# Altium footprint library PcbLib1.PcbLib: 21 footprints (part 1 of 2)
Each footprint in its own frame and in the unit in brackets; x right, y up, seen from the top. Pads: shape width x height; smd on the part's side, far side on the other; paste and mask are expansions set on the pad; w line width, h text height; cw(c..) or ccw(c..) is an arc to the next point about the centre after c.
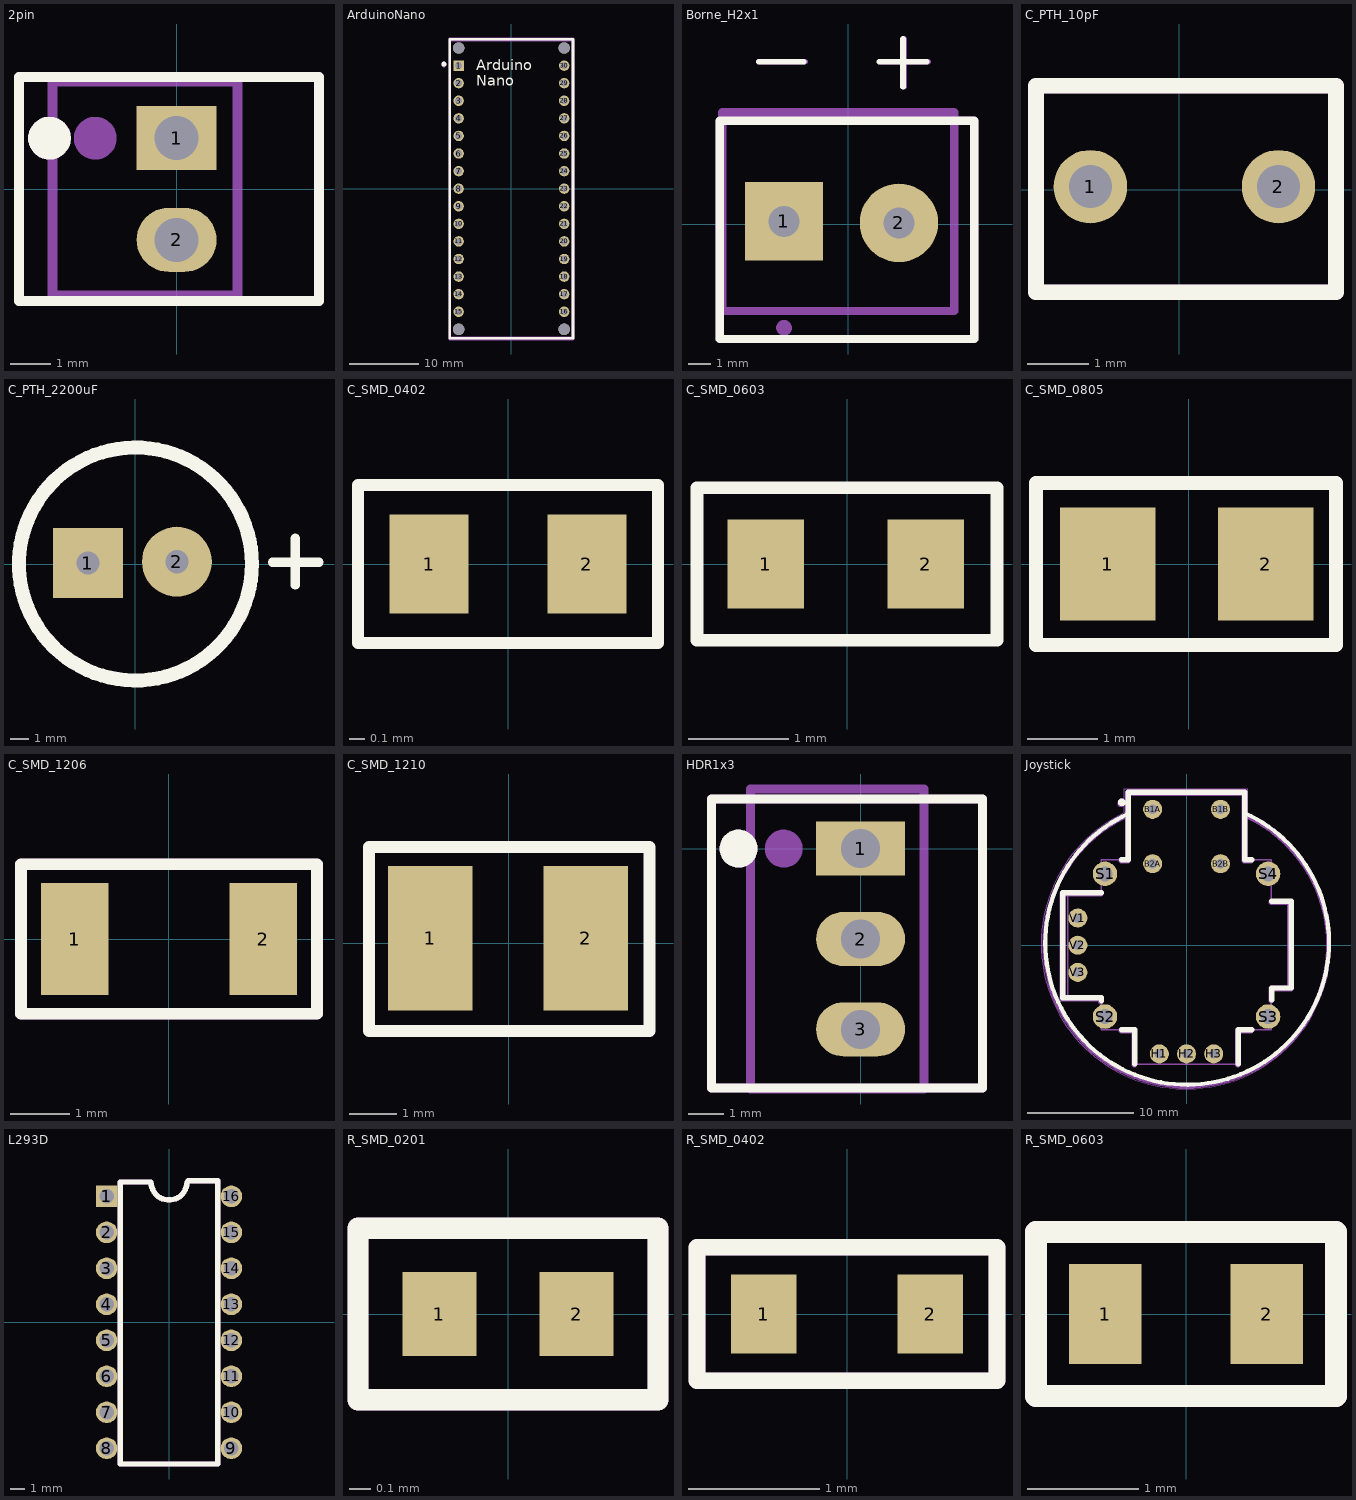
[diagram p0: the footprints below, top view; thin cyan lines are the x and y axes]

## 2pin [mm]
pads (2):
  rect 2x1.6 hole 1.1: 1(0,1.27)
  oval 2x1.6 hole 1.1: 2(0,-1.27)
Top Overlay:
  circle w0.559: c-3.175,1.27 r0.254
  lines w0.254: -3.937,-2.794 3.556,-2.794 3.556,2.794 -3.937,2.794 -3.937,-2.794
Mechanical 29:
  circle w0.559: c-3.175,1.27 r0.254
  lines w0.254: -3.937,-2.794 3.556,-2.794 3.556,2.794 -3.937,2.794 -3.937,-2.794
  text "'.Designator'" at -3.175,-1.524 h0.7
Mechanical 29 (Mech29):
  circle w0.559: c-2.032,1.27 r0.254
  lines w0.254: -3.099,-2.667 1.524,-2.667 1.524,2.692 -3.099,2.692 -3.099,-2.667
  text "'.Designator'" at -2.032,-0.762 h0.7
3D body "640456-2.step": height 10.03, standoff -3.56, extent -2.603,-2.54 3.238,2.54

## ArduinoNano [mm]
pads (34):
  rect 1.508x1.508 hole 1: 1(-7.62,17.78)
  round 1.508 hole 1: 2(-7.62,15.24) 3(-7.62,12.7) 4(-7.62,10.16) 5(-7.62,7.62) 6(-7.62,5.08) 7(-7.62,2.54) 8(-7.62,0) 9(-7.62,-2.54) 10(-7.62,-5.08) 11(-7.62,-7.62) 12(-7.62,-10.16) 13(-7.62,-12.7) 14(-7.62,-15.24) 15(-7.62,-17.78) 16(7.62,-17.78) 17(7.62,-15.24) 18(7.62,-12.7) 19(7.62,-10.16) 20(7.62,-7.62) 21(7.62,-5.08) 22(7.62,-2.54) 23(7.62,0) 24(7.62,2.54) 25(7.62,5.08) 26(7.62,7.62) 27(7.62,10.16) 28(7.62,12.7) 29(7.62,15.24) 30(7.62,17.78)
  round 1.651 hole 1.651 unplated: ""(-7.62,-20.32) ""(-7.62,20.32) ""(7.62,-20.32) ""(7.62,20.32)
Top Overlay:
  circle w0.508: c-9.75,18 r0.1
  lines w0.381: -8.89,-21.59 -8.89,21.59 8.89,21.59 8.89,-21.59 -8.89,-21.59
  text "Arduino / Nano" at -5.08,14.859 h1.52
Mechanical 29:
  circle w0.508: c-9.75,17.873 r0.1
  lines w0.381: -8.89,-21.717 -8.89,21.463 8.89,21.463 8.89,-21.717 -8.89,-21.717
  text "'.Designator'" at -1.524,-6.223 h0.7
Mechanical 29 (Mech29):
  circle w0.508: c-9.779,18.034 r0.1
  lines w0.381: -8.919,-21.556 8.861,-21.556 8.861,21.624 -8.919,21.624 -8.919,-21.556
  text "'.Designator'" at -3.329,-19.445 h0.8
3D body "step_temp.STEP": height 12.6, standoff -6, extent -9,-23.4 9,21.6

## Borne_H2x1 [mil]
pads (2):
  rect 140x140 hole 55.12: 1(-115,5)
  round 140 hole 55.12: 2(90.28,2.32)
Top Overlay:
  lines w10: -160,290 -80,290 ; 55,290 140,290 ; 97.51,245.7 97.51,330.7
  lines w15: -230,-205 225,-205 225,185 -230,185 -230,-205
Mechanical 29:
  lines w10: -157.5,290 -77.5,290 ; 57.5,290 142.5,290 ; 100.01,245.7 100.01,330.7
  lines w15: -230,-205 225,-205 225,185 -230,185 -230,-205
  text "'.Designator'" at -201.98,118.73 h27.56
Mechanical 29 (Mech29):
  circle w20: c-115,-185 r3.94
  lines w15: -225,-155 188.7,-155 188.7,200 -225,200 -225,-155
  text "'.Designator'" at -165,-125.01 h60
3D body "1935161.step": height 449.32, standoff -137.29, extent -208.43,-190.28 201.02,164.06

## C_PTH_10pF [mm]
pads (2):
  round 1.2 hole 0.7: 1(-1.448,0.051) 2(1.626,0.051)
Top Overlay:
  lines w0.254: -2.337,-1.676 2.565,-1.676 2.565,1.702 -2.337,1.702 -2.337,-1.676
Mechanical 29:
  lines w0.254: -2.337,-1.676 2.565,-1.676 2.565,1.702 -2.337,1.702 -2.337,-1.676
  text "'.Designator'" at -2.184,-0.584 h0.7
3D body "CPTH10pF.step": height 6.53, standoff -1.68, extent -1.867,-1.27 2.12,1.32

## C_PTH_2200uF [mil]
pads (2):
  rect 150x150 hole 50: 1(-102,2)
  round 150 hole 50: 2(89,5)
Top Overlay:
  circle w30: c0,0 r250
  lines w20: 294,4 394,4 ; 343,-45 343,55
3D body "CPTH2200uF.step": height 1377.95, standoff -669.29, extent -251.13,-242.9 240,248.9

## C_SMD_0402 [mil]
pads (2):
  rect 20x25 smd: 1(-20,0) 2(20,0)
Top Overlay:
  lines w3: -38,-20 38,-20 38,20 -38,20 -38,-20
3D body "C0402.step": height 19.84, standoff 0.16, extent -19.68,-10.65 19.68,11

## C_SMD_0603 [mil]
pads (2):
  rect 30x35 smd: 1(-32,0) 2(31,0)
Top Overlay:
  lines w5: -59,-30 59,-30 59,30 -59,30 -59,-30
3D body "RSMD0603.step": height 21.65, standoff 0, extent -31.78,-16.17 31.21,15.33

## C_SMD_0805 [mm]
pads (2):
  rect 1.35x1.6 smd: 1(-1.143,0) 2(1.092,0)
Top Overlay:
  lines w0.2: -2.159,-1.143 2.083,-1.143 2.083,1.143 -2.159,1.143 -2.159,-1.143
3D body "C0805.step": height 0.95, standoff 0, extent -1,-0.625 1,0.625

## C_SMD_1206 [mm]
pads (2):
  rect 1.15x1.9 smd: 1(-1.6,0) 2(1.6,0)
Top Overlay:
  lines w0.2: -2.515,-1.27 -2.515,1.27 2.515,1.27 2.515,-1.27 -2.515,-1.27
Mechanical 29:
  lines w0.2: -2.515,-1.27 -2.515,1.27 2.515,1.27 2.515,-1.27 -2.515,-1.27
  text "'.Designator'" at -2.078,-0.617 h0.7
3D body "C1206.step": height 0.88, standoff 0, extent -1.584,-0.788 1.616,0.812

## C_SMD_1210 [mil]
pads (2):
  rect 70x120 smd: 1(-65,4) 2(64,4)
Top Overlay:
  lines w10: -116,-73 117,-73 117,80 -116,80 -116,-73
3D body "C1210.step": height 99.21, standoff 0.79, extent -62.99,-52 62.99,58.24

## HDR1x3 [mm]
pads (3):
  rect 2.5x1.524 hole 1.1: 1(0,0)
  oval 2.5x1.524 hole 1.1: 2(0,-2.54) 3(0,-5.08)
Top Overlay:
  circle w0.559: c-3.429,0 r0.254
  lines w0.254: -4.191,-6.731 -4.191,1.397 3.429,1.397 3.429,-6.731 -4.191,-6.731
Mechanical 29:
  circle w0.559: c-3.429,0 r0.254
  lines w0.254: -4.191,-6.731 -4.191,1.397 3.429,1.397 3.429,-6.731 -4.191,-6.731
  text "'.Designator'" at -3.429,-4.445 h0.7
Mechanical 29 (Mech29):
  circle w0.559: c-2.159,0 r0.254
  lines w0.254: -3.099,-6.756 -3.099,1.676 1.778,1.676 1.778,-6.756 -3.099,-6.756
  text "'.Designator'" at -2.282,-2.873 h0.8
3D body "640456-3.stp": height 10.03, standoff -3.56, extent -2.667,-6.477 3.175,1.143

## Joystick [mil]
pads (14):
  round 70 hole 35.43: B1A(-125,500) B1B(125,500) B2A(-125,300) B2B(125,300)
  round 70 hole 35: H1(-100,-400) H2(0,-400) H3(100,-400) V1(-400,100) V2(-400,0) V3(-400,-100)
  round 90 hole 55: S1(-300,262.5) S2(-300,-262.5) S3(300,-262.5) S4(300,262.5)
Top Overlay:
  circle w20: c-238.19,525.59 r3.94
  lines w15: -214.57,483.61 ccw(c2.24,8.72) 214.57,485.62
  lines w20: -312.99,-203.54 -312.99,-192.91 -455,-192.91 -455,192.91 -312.99,192.91 ; -238.98,-311.02 -190.94,-311.02 -190.94,-437.01 ; -238.98,314.96 -214.57,314.96 -214.57,562.99 214.57,562.99 214.57,314.96 239.37,314.96 ; 190.94,-437.01 190.94,-311.02 239.37,-311.02 ; 312.99,-201.57 312.99,-157.48 385,-157.48 385,161.42 312.99,161.42
Mechanical 29:
  circle w20: c-240.43,521.87 r3.94
  lines w15: -216.8,479.88 ccw(c0,5) 212.33,481.9
  lines w20: -315.23,-207.27 -315.23,-196.64 -457.24,-196.64 -457.24,189.19 -315.23,189.19 ; -241.21,-314.75 -193.18,-314.75 -193.18,-440.73 ; -241.21,311.24 -216.8,311.24 -216.8,559.27 212.33,559.27 212.33,311.24 237.13,311.24 ; 188.71,-440.73 188.71,-314.75 237.13,-314.75 ; 310.76,-205.3 310.76,-161.2 382.76,-161.2 382.76,157.69 310.76,157.69
  text "'.Designator'" at -291.98,-81.27 h27.56
Mechanical 15:
  lines w1.97: -228.35,486.22 -228.35,574.8 224.41,574.8 224.41,486.22 ; -227.17,486.77 ccw(c-1.97,3.83) 223.23,486.77
Mechanical 29 (Mech29):
  circle w20: c-238.94,525 r3.94
  circle w7.87: c-238.94,525 r3.94
  lines w5: -437.76,-193.5 -313.74,-193.5 -313.74,-311.61 -191.69,-311.61 -191.69,-437.6 190.2,-437.6 190.2,-311.61 312.24,-311.61 312.24,-158.07 373.27,-158.07 373.27,160.83 312.24,160.83 312.24,314.37 213.82,314.37 213.82,562.4 -215.31,562.4 -215.31,314.37 -313.74,314.37 -313.74,192.32 -437.76,192.32 -437.76,-193.5
  lines w15: -213.08,478.76 ccw(c-0.75,1.86) 211.58,478.76
  lines w20: -313.74,-204.13 -313.74,-193.5 -455,-193.5 -455,192.32 -313.74,192.32 ; -239.72,-311.61 -191.69,-311.61 -191.69,-437.6 ; -239.72,314.37 -215.31,314.37 -215.31,562.4 213.82,562.4 213.82,314.37 238.62,314.37 ; 190.2,-437.6 190.2,-311.61 238.62,-311.61 ; 312.24,-202.17 312.24,-158.07 385,-158.07 385,160.83 312.24,160.83
  text "'.Designator'" at -164.84,31.87 h31.5
3D body "Joystick.step": height 1190, standoff -175, extent -525,-523.75 525,563.75

## L293D [mil]
height 200.79
pads (16):
  rect 60x60 hole 40: 1(-173.23,350)
  round 60 hole 40: 2(-173.23,250) 3(-173.23,150) 4(-173.23,50) 5(-173.23,-50) 6(-173.23,-150) 7(-173.23,-250) 8(-173.23,-350) 9(173.23,-350) 10(173.23,-250) 11(173.23,-150) 12(173.23,-50) 13(173.23,50) 14(173.23,150) 15(173.23,250) 16(173.23,350)
Top Overlay:
  lines w15: 50,390 cw(c0,390) -50,390 -135,390 -135,-393.7 135,-393.7 135,393.7 53.7,393.7
Mechanical 29:
  lines w15: 50,390 cw(c0,390) -50,390 -135,390 -135,-393.7 135,-393.7 135,393.7 53.7,393.7
  text "'.Designator'" at -216.98,38.73 h27.56
3D body "step_temp.STEP": height 200.79, standoff -129.92, extent -183.82,-393.7 180,393.7

## R_SMD_0201 [mm]
pads (2):
  rect 0.35x0.4 smd: 1(-0.325,0) 2(0.325,0)
Top Overlay:
  lines w0.102: -0.711,-0.406 -0.711,0.406 0.711,0.406 0.711,-0.406 -0.711,-0.406
Mechanical 29:
  lines w0.102: -0.711,-0.406 -0.711,0.406 0.711,0.406 0.711,-0.406 -0.711,-0.406
  text "'.Designator'" at -0.737,-0.406 h0.25
3D body "RSMD0201.step": height 0.26, standoff 0, extent -0.291,-0.154 0.309,0.146

## R_SMD_0402 [mm]
pads (2):
  rect 0.5x0.6 smd: 1(-0.635,0) 2(0.635,0)
Top Overlay:
  lines w0.127: -1.143,-0.508 1.143,-0.508 1.143,0.508 -1.143,0.508 -1.143,-0.508
Mechanical 29:
  lines w0.127: -1.143,-0.508 -1.143,0.508 1.143,0.508 1.143,-0.508 -1.143,-0.508
  text "'.Designator'" at -0.889,-0.254 h0.25
3D body "ERJ-2GE0R00X.step": height 0.35, standoff 0, extent -0.5,-0.25 0.5,0.25

## R_SMD_0603 [mm]
pads (2):
  rect 0.65x0.9 smd: 1(-0.725,0) 2(0.725,0)
Top Overlay:
  lines w0.2: -1.346,-0.737 -1.346,0.737 1.346,0.737 1.346,-0.737 -1.346,-0.737
Mechanical 29:
  lines w0.2: -1.346,-0.737 -1.346,0.737 1.346,0.737 1.346,-0.737 -1.346,-0.737
  text "'.Designator'" at -0.94,-0.305 h0.25
3D body "RSMD0603.step": height 0.55, standoff 0, extent -0.8,-0.4 0.8,0.4